# Altium schematic symbol library USB2.0_HUB.SchLib: 10 symbols
Pins are listed as number, name and electrical type; pins without a type are passive.

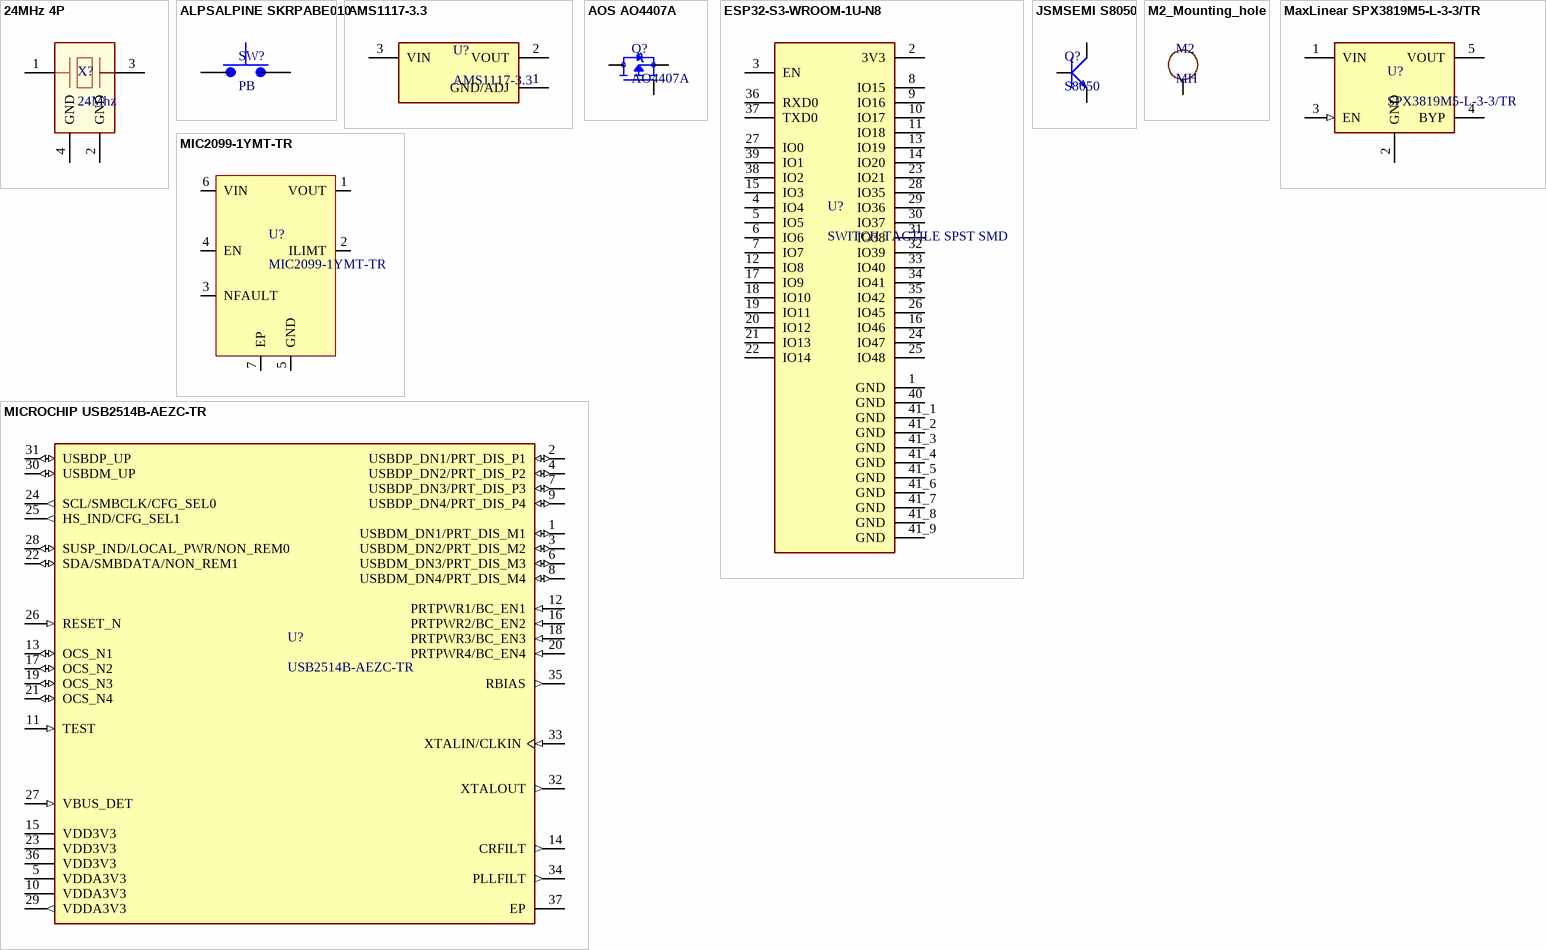
[diagram p0: symbols 24MHz 4P to MICROCHIP USB2514B-AEZC-TR]

## 24MHz 4P
designator X?, comment 24Mhz
Crystal 24MHz ±10ppm 9pF 30Ω SMD3225-4P; Manufacturer: TOGNJING; Manufacturer Part Number: XTM32024000FT00351001; LCSC Part Number: C41383244; Package: SMD3225-4P; ComponentLink1Description: Digikey Link; ComponentLink2Description: LCSC Link; ComponentLink2URL: https://www.lcsc.com/product-detail/C41383244.html?spm=wm.fly.bg.0.xh&lcsc_vid=QFAPUwAAQANZBgdRRwJcBAYDQlgNA1FUQgJZBgIFQAUxVlNRQ1ReXlRVR1dcVjsOAxUeFF5JWBYZEEoBGA4JCwFIFA4DSA%3D%3D; Mounting Type: SMD
footprint SMD3225-4P (HCI XC32M4-8.000-F12LJDT)
pins: 1, 2 GND, 3, 4 GND

## ALPSALPINE SKRPABE010
designator SW?, comment PB
Tactile Switch SPST 2.5mm 4.2mm x 3.2mm Surface Mount; Manufacturer: ALPSALPINE; Manufacturer Part Number: SKRPABE010; LCSC Part Number: C115360; Package: SMD-4P,4.2x3.2mm; ComponentLink1Description: Digikey Link; ComponentLink2Description: LCSC Link; ComponentLink2URL: https://www.lcsc.com/product-detail/C115360.html?s_z=n_C115360; Mounting Type: SMD
footprint ALPSALPINE SKRPABE010
pins: 1, 2 1, 3 2, 4 2

## AMS1117-3.3
designator U?
1A Low Dropout (LDO) Regulator; Manufacturer: Advanced Monolithic Systems; Manufacturer Part Number: AMS1117-3.3; DigiKey Part Number: 5272-AMS1117-3.3CT-ND; LCSC Part Number: C6186; Package: SOT-223; ComponentLink1Description: Digikey Link; ComponentLink1URL: https://www.digikey.com/en/products/detail/evvo/AMS1117-3-3/22482148; ComponentLink2Description: LCSC Link; ComponentLink2URL: https://www.lcsc.com/product-detail/C6186.html?s_z=n_AMS1117; Mounting Type: SMD
footprint AMS1117_SOT-223
pins: 1 GND/ADJ (power), 2 VOUT (power), 3 VIN (power)

## AOS AO4407A
designator Q?, comment AO4407A
P-Channel 30V 12A 3.1W Surface Mount SOIC-8; Manufacturer: AOS; Manufacturer Part Number: AO4407A; LCSC Part Number: C16072; Package: SOIC-8; ComponentLink1Description: Digikey Link; ComponentLink2Description: LCSC Link; ComponentLink2URL: https://www.lcsc.com/product-detail/C16072.html?s_z=n_AO4407A; Mounting Type: SMD
footprint AO4407A_SOIC-8
pins: 1 S, 2 S, 3 S, 4 G, 5 D, 6 D, 7 D, 8 D

## ESP32-S3-WROOM-1U-N8
designator U?, comment SWITCH TACTILE SPST SMD
2.4 GHz Wi-Fi (802.11 b/g/n) and Bluetooth 5 (LE) module; Manufacturer: ESPRESSIF; Manufacturer Part Number: ESP32-S3-WROOM-1U-N8; LCSC Part Number: C2980297; Package: SMD,19.2x18mm; Mounting Type: SMD; ComponentLink1Description: Digikey Link; ComponentLink1URL: *; ComponentLink2Description: LCSC Link; ComponentLink2URL: https://www.lcsc.com/product-detail/C2980297.html?s_z=n_esp32%2520s3%2520wroom1u
footprint XCVR_ESP32-S3-WROOM-1U
pins: 1 GND (power), 2 3V3 (power), 3 EN, 4 IO4, 5 IO5, 6 IO6, 7 IO7, 8 IO15, 9 IO16, 10 IO17, 11 IO18, 12 IO8, 13 IO19, 14 IO20, 15 IO3, 16 IO46, 17 IO9, 18 IO10, 19 IO11, 20 IO12, 21 IO13, 22 IO14, 23 IO21, 24 IO47, 25 IO48, 26 IO45, 27 IO0, 28 IO35, 29 IO36, 30 IO37, 31 IO38, 32 IO39, 33 IO40, 34 IO41, 35 IO42, 36 RXD0, 37 TXD0, 38 IO2, 39 IO1, 40 GND (power), 41_1 GND (power), 41_2 GND (power), 41_3 GND (power), 41_4 GND (power), 41_5 GND (power), 41_6 GND (power), 41_7 GND (power), 41_8 GND (power), 41_9 GND (power)

## JSMSEMI S8050
designator Q?, comment S8050
Bipolar (BJT) Transistor 25V 500mA 150MHz 300mW Surface Mount SOT-23; Manufacturer: JSMSEMI; Manufacturer Part Number: S8050; LCSC Part Number: C916390; Package: SOT-23; ComponentLink1Description: Digikey Link; ComponentLink2Description: LCSC Link; ComponentLink2URL: https://www.lcsc.com/product-detail/C916390.html?s_z=n_S8050&spm=wm.ssy.bg.1.xh&lcsc_vid=QlAIX1RQQQJfX1VRTwcNAQJXTlRaUQBVEQBYAwJfFFcxVlNRQ1RXUVNXR1NXVTsOAxUeFF5JWBYZEEoKFBINSQcJGk4dAgUUFAk%3D; Mounting Type: SMD
footprint S8050_SOT-23
pins: 1 B, 2 E, 3 C

## M2_Mounting_hole
designator M2, comment MH
footprint M2_Mounting_Hole
pins: 1 H

## MaxLinear SPX3819M5-L-3-3/TR
designator U?, comment SPX3819M5-L-3-3/TR
3.3V 16V Positive Fixed SOT-23-5 Voltage Regulators - Linear, Low Drop Out (LDO) Regulators RoHS; Manufacturer: MaxLinear; Manufacturer Part Number: SPX3819M5-L-3-3/TR; LCSC Part Number: C9055; Package: SOT-23-5; ComponentLink1Description: Digikey Link; ComponentLink2Description: LCSC Link; ComponentLink2URL: https://www.lcsc.com/product-detail/C9055.html?s_z=n_spx3819M5&spm=wm.ssy.bg.1.xh&lcsc_vid=QlAIX1RQQQJfX1VRTwcNAQJXTlRaUQBVEQBYAwJfFFcxVlNRQ1VWVl1VRFdYVDsOAxUeFF5JWBYZEEoKFBINSQcJGk4eFQsCAgIaSgADAwAHC0slQFNeUlZXWQkaCgg%3D; Mounting Type: SMD
footprint SPX3819M5-L-3-3/TR_SOT-23-5
pins: 1 VIN (power), 2 GND (power), 3 EN (in), 4 BYP, 5 VOUT (power)

## MIC2099-1YMT-TR
designator U?
UDFN-6 Power Distribution Switches, Load Drivers RoHS; Manufacturer: MICROCHIP; Manufacturer Part Number: MIC2099-1YMT-TR; LCSC Part Number: C621526; Package: UDFN-6; ComponentLink1Description: Digikey Link; ComponentLink2Description: LCSC Link; ComponentLink2URL: https://www.lcsc.com/product-detail/C621526.html?s_z=n_MIC2099&spm=wm.ssy.bg.0.xh&lcsc_vid=QlAIX1RQQQJfX1VRTwcNAQJXTlRaUQBVEQBYAwJfFFcxVlNRQ1RfU1ZVRFdWXzsOAxUeFF5JWBYZEEoKFBINSQcJGk4eFQsCAgIaSgADAwAHC0slRlVYUVdIHxUDCw%3D%3D; Mounting Type: SMD
footprint MIC2099_UDFN-6
pins: 1 VOUT, 2 ILIMT, 3 NFAULT, 4 EN, 5 GND, 6 VIN, 7 EP

## MICROCHIP USB2514B-AEZC-TR
designator U?, comment USB2514B-AEZC-TR
4 480Mbps Hub USB 2.0 VQFN-36-EP(6x6) Interface Controllers RoHS; Manufacturer: MICROCHIP; Manufacturer Part Number: USB2514B-AEZC-TR; LCSC Part Number: C16251; Package: VQFN-36-EP(6x6); ComponentLink1Description: Digikey Link; ComponentLink2Description: LCSC Link; ComponentLink2URL: https://www.lcsc.com/product-detail/C16251.html?s_z=n_usb2514B; Mounting Type: SMD
footprint USB2514B_VQFN-36-EP(6x6)
pins: 1 USBDM_DN1/PRT_DIS_M1 (io), 2 USBDP_DN1/PRT_DIS_P1 (io), 3 USBDM_DN2/PRT_DIS_M2 (io), 4 USBDP_DN2/PRT_DIS_P2 (io), 5 VDDA3V3 (power), 6 USBDM_DN3/PRT_DIS_M3 (io), 7 USBDP_DN3/PRT_DIS_P3 (io), 8 USBDM_DN4/PRT_DIS_M4 (io), 9 USBDP_DN4/PRT_DIS_P4 (io), 10 VDDA3V3 (power), 11 TEST (in), 12 PRTPWR1/BC_EN1 (in), 13 OCS_N1 (io), 14 CRFILT (out), 15 VDD3V3 (power), 16 PRTPWR2/BC_EN2 (in), 17 OCS_N2 (io), 18 PRTPWR3/BC_EN3 (in), 19 OCS_N3 (io), 20 PRTPWR4/BC_EN4 (in), 21 OCS_N4 (io), 22 SDA/SMBDATA/NON_REM1 (io), 23 VDD3V3 (power), 24 SCL/SMBCLK/CFG_SEL0 (out), 25 HS_IND/CFG_SEL1 (out), 26 RESET_N (in), 27 VBUS_DET (in), 28 SUSP_IND/LOCAL_PWR/NON_REM0 (io), 29 VDDA3V3 (out), 30 USBDM_UP (io), 31 USBDP_UP (io), 32 XTALOUT (out), 33 XTALIN/CLKIN (in), 34 PLLFILT (out), 35 RBIAS (out), 36 VDD3V3 (power), 37 EP (power)